# Altium footprint library SOP127P600X180-16N.PcbLib: 1 footprints
Each footprint in its own frame and in the unit in brackets; x right, y up, seen from the top. Pads: shape width x height; smd on the part's side, far side on the other; paste and mask are expansions set on the pad; w line width, h text height; cw(c..) or ccw(c..) is an arc to the next point about the centre after c.
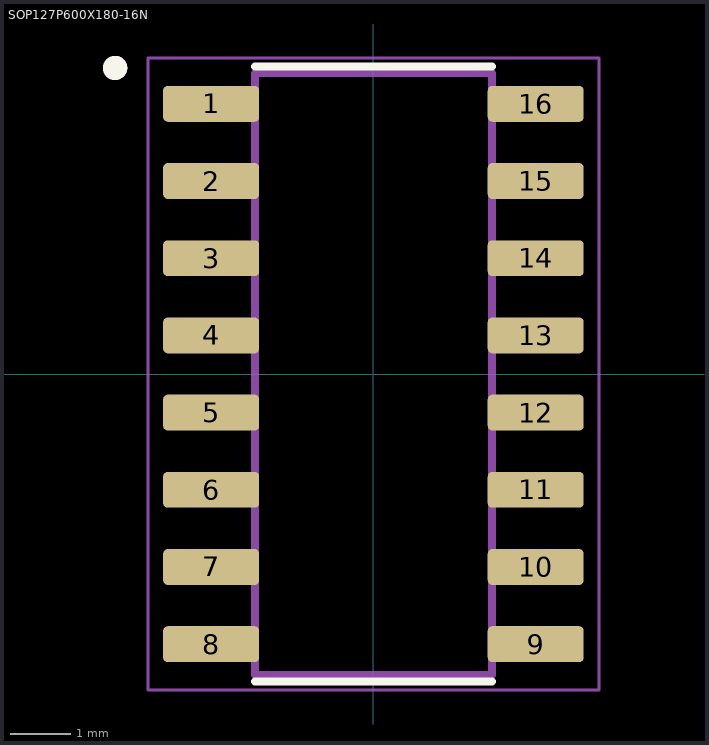
[diagram p0: the footprint, top view; thin cyan lines are the x and y axes]

## SOP127P600X180-16N [mm]
pads (16):
  rrect25% 1.58x0.59 smd: 1(-2.67,4.445) 2(-2.67,3.175) 3(-2.67,1.905) 4(-2.67,0.635) 5(-2.67,-0.635) 6(-2.67,-1.905) 7(-2.67,-3.175) 8(-2.67,-4.445) 9(2.67,-4.445) 10(2.67,-3.175) 11(2.67,-1.905) 12(2.67,-0.635) 13(2.67,0.635) 14(2.67,1.905) 15(2.67,3.175) 16(2.67,4.445)
Top Overlay:
  circle w0.2: c-4.25,5.035 r0.1
  lines w0.127: -1.95,-5.06 1.95,-5.06 ; -1.95,5.06 1.95,5.06
Mechanical 13:
  circle w0.2: c-4.25,5.035 r0.1
  lines w0.127: -1.95,-4.95 -1.95,4.95 1.95,4.95 1.95,-4.95 -1.95,-4.95
Mechanical 15:
  lines w0.05: -3.71,-5.2 -3.71,5.2 3.71,5.2 3.71,-5.2 -3.71,-5.2
3D body "User Library-sop16-1.step": height 1.58, standoff 0, extent -3.117,-4.991 3.118,4.99